# EAGLE library part XC2V8000* (library Xilinx_VirtexII)
Xilinx Virtex II FPGA
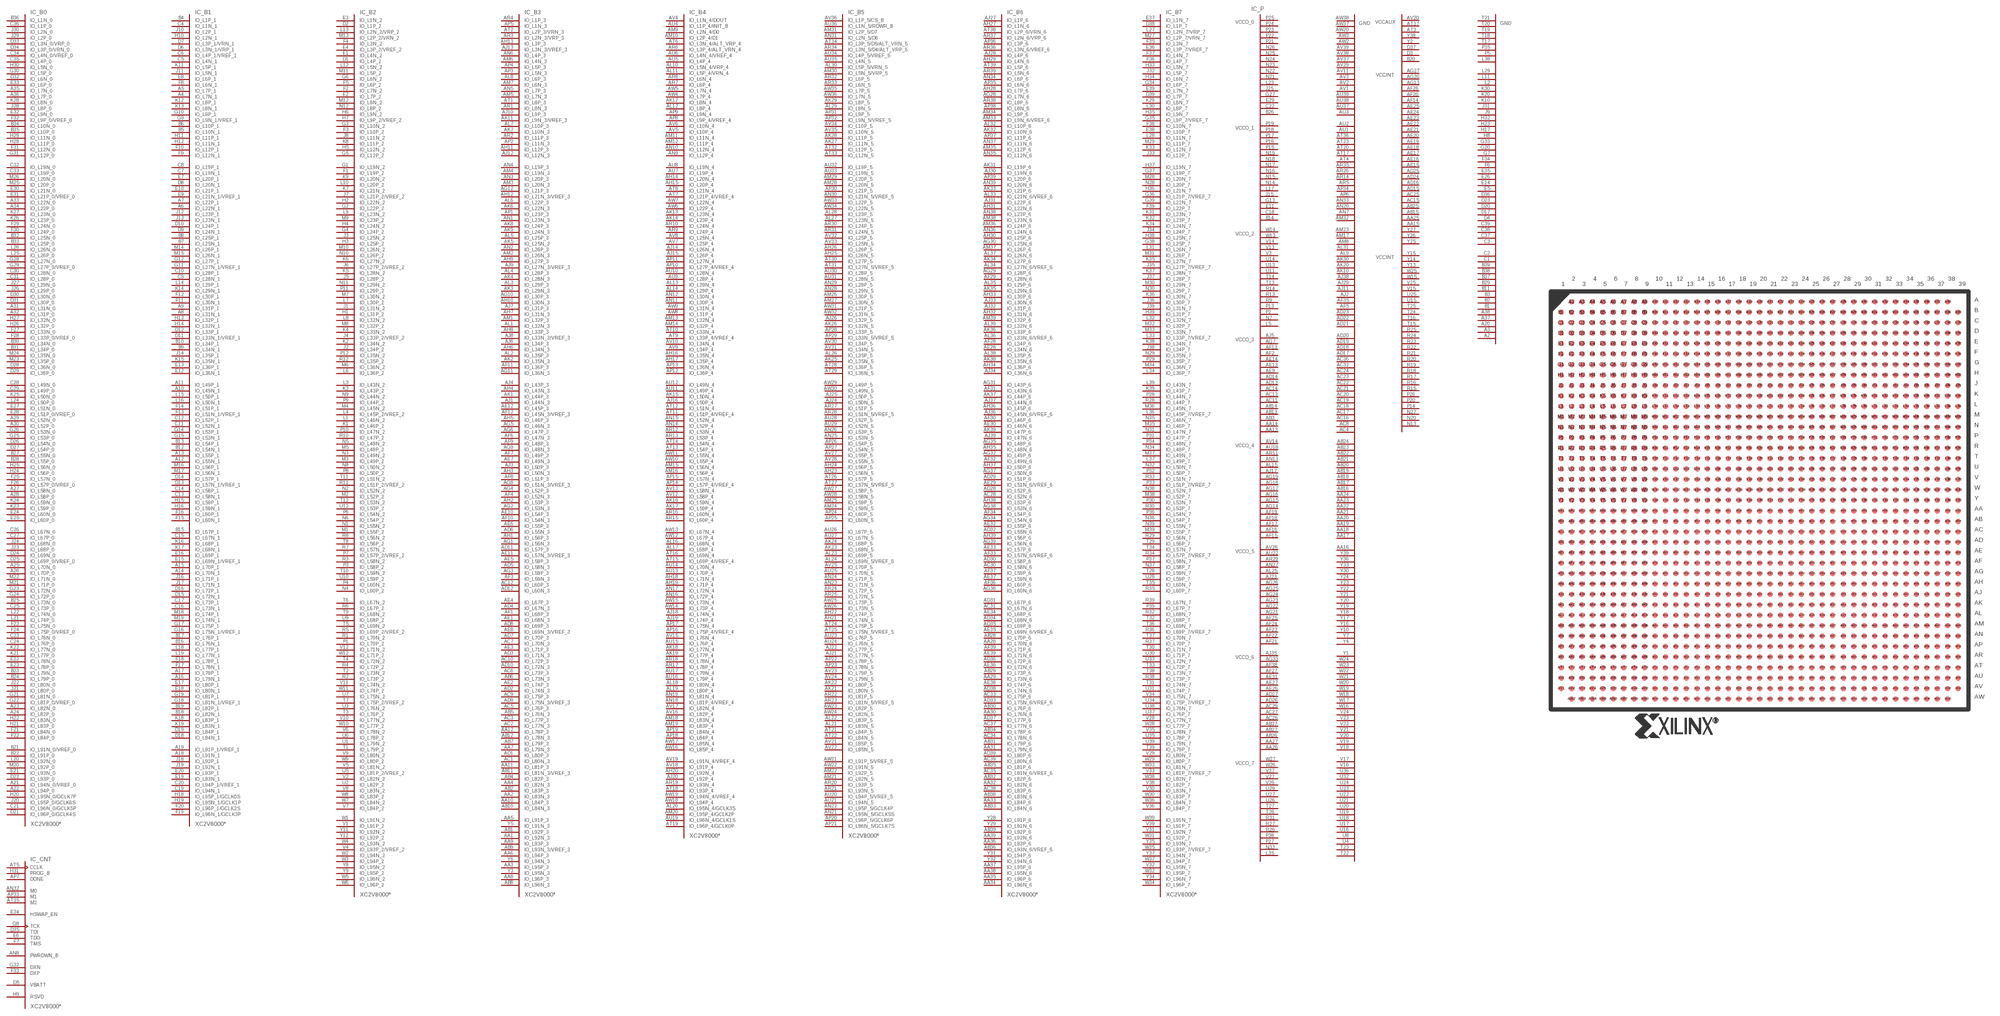
[diagram p0: symbol with the pads of FF1517; footprint FF1517]

Designator prefix IC; gates _B0=XC2V8000-FF1517_B0 _B1=XC2V8000-FF1517_B1 _B2=XC2V8000-FF1517_B2 _B3=XC2V8000-FF1517_B3 _B4=XC2V8000-FF1517_B4 _B5=XC2V8000-FF1517_B5 _B6=XC2V8000-FF1517_B6 _B7=XC2V8000-FF1517_B7 _CNT=XC2V8000-FF1517_CNT _P=XC2V8000-FF1517_PWR

## XC2V8000FF1517C, XC2V8000CFF1517C, XC2V8000IFF1517C  [FF1517]
A2  _P:GND  pwr
A3  _P:GND  pwr
A4  _B1:IO_L7N_1
A5  _B1:IO_L7P_1
A6  _B1:IO_L22N_1
A7  _B1:IO_L22P_1
A8  _B1:IO_L31N_1
A9  _B1:IO_L31P_1
A10  _B1:IO_L49N_1
A11  _B1:IO_L49P_1
A12  _B1:IO_L55N_1
A13  _B1:IO_L55P_1
A14  _B1:IO_L70N_1
A15  _B1:IO_L70P_1
A16  _B1:IO_L79N_1
A17  _B1:IO_L79P_1
A18  _B1:IO_L91N_1
A19  _B1:IO_L91P_1/VREF_1
A20  _P:GND  pwr
A21  _B0:IO_L94N_0/VREF_0
A22  _B0:IO_L94P_0
A23  _B0:IO_L82N_0
A24  _B0:IO_L82P_0
A25  _B0:IO_L70N_0
A26  _B0:IO_L70P_0
A27  _B0:IO_L58N_0
A28  _B0:IO_L58P_0
A29  _B0:IO_L52N_0
A30  _B0:IO_L52P_0
A31  _B0:IO_L31N_0
A32  _B0:IO_L31P_0
A33  _B0:IO_L22N_0
A34  _B0:IO_L22P_0
A35  _B0:IO_L7N_0
A36  _B0:IO_L7P_0
A37  _P:GND  pwr
A38  _P:GND  pwr
AA1  _B3:IO_L92N_3
AA2  _B3:IO_L83N_3
AA3  _B3:IO_L95P_3
AA4  _B3:IO_L82N_3
AA5  _B3:IO_L91P_3
AA6  _B3:IO_L94P_3
AA7  _B3:IO_L79N_3
AA8  _B3:IO_L96P_3
AA9  _B3:IO_L93P_3
AA10  _B3:IO_L84P_3
AA11  _B3:IO_L81P_3
AA12  _B3:IO_L78P_3
AA13  _P:VCCO_3  pwr
AA14  _P:VCCO_3  pwr
AA15  _P:VCCINT  pwr
AA16  _P:GND  pwr
AA17  _P:GND  pwr
AA18  _P:GND  pwr
AA19  _P:GND  pwr
AA20  _P:GND  pwr
AA21  _P:GND  pwr
AA22  _P:GND  pwr
AA23  _P:GND  pwr
AA24  _P:GND  pwr
AA25  _P:VCCINT  pwr
AA26  _P:VCCO_6  pwr
AA27  _P:VCCO_6  pwr
AA28  _B6:IO_L70N_6
AA29  _B6:IO_L73N_6
AA30  _B6:IO_L76N_6
AA31  _B6:IO_L79N_6
AA32  _B6:IO_L82N_6
AA33  _B6:IO_L84P_6
AA34  _B6:IO_L96N_6
AA35  _B6:IO_L96P_6
AA36  _B6:IO_L93P_6
AA37  _B6:IO_L95P_6
AA38  _B6:IO_L95N_6
AA39  _B6:IO_L92N_6
AB1  _B3:IO_L92P_3
AB2  _B3:IO_L83P_3
AB3  _P:VCCO_3  pwr
AB4  _B3:IO_L82P_3
AB5  _B3:IO_L76N_3
AB6  _B3:IO_L73N_3
AB7  _B3:IO_L79P_3
AB8  _B3:IO_L96N_3
AB9  _B3:IO_L93N_3/VREF_3
AB10  _B3:IO_L84N_3
AB11  _B3:IO_L81N_3/VREF_3
AB12  _B3:IO_L78N_3
AB13  _P:VCCO_3  pwr
AB14  _P:VCCO_3  pwr
AB15  _P:VCCINT  pwr
AB16  _P:GND  pwr
AB17  _P:GND  pwr
AB18  _P:GND  pwr
AB19  _P:GND  pwr
AB20  _P:GND  pwr
AB21  _P:GND  pwr
AB22  _P:GND  pwr
AB23  _P:GND  pwr
AB24  _P:GND  pwr
AB25  _P:VCCINT  pwr
AB26  _P:VCCO_6  pwr
AB27  _P:VCCO_6  pwr
AB28  _B6:IO_L70P_6
AB29  _B6:IO_L73P_6
AB30  _B6:IO_L76P_6
AB31  _B6:IO_L79P_6
AB32  _B6:IO_L82P_6
AB33  _B6:IO_L84N_6
AB34  _B6:IO_L78P_6
AB35  _B6:IO_L81P_6
AB36  _B6:IO_L93N_6/VREF_6
AB37  _P:VCCO_6  pwr
AB38  _B6:IO_L83N_6
AB39  _B6:IO_L92P_6
AC1  _B3:IO_L80N_3
AC2  _B3:IO_L77N_3
AC3  _B3:IO_L77P_3
AC4  _P:GND  pwr
AC5  _B3:IO_L76P_3
AC6  _B3:IO_L73P_3
AC7  _B3:IO_L70N_3
AC8  _P:GND  pwr
AC9  _B3:IO_L75P_3
AC10  _B3:IO_L72P_3
AC11  _P:VCCO_3  pwr
AC12  _B3:IO_L60P_3
AC13  _P:VCCO_3  pwr
AC14  _P:VCCO_3  pwr
AC15  _P:VCCINT  pwr
AC16  _P:GND  pwr
AC17  _P:GND  pwr
AC18  _P:GND  pwr
AC19  _P:GND  pwr
AC20  _P:GND  pwr
AC21  _P:GND  pwr
AC22  _P:GND  pwr
AC23  _P:GND  pwr
AC24  _P:GND  pwr
AC25  _P:VCCINT  pwr
AC26  _P:VCCO_6  pwr
AC27  _P:VCCO_6  pwr
AC28  _B6:IO_L52N_6
AC29  _P:VCCO_6  pwr
AC30  _B6:IO_L58N_6
AC31  _B6:IO_L67N_6
AC32  _P:GND  pwr
AC33  _B6:IO_L75P_6
AC34  _B6:IO_L78N_6
AC35  _B6:IO_L81N_6/VREF_6
AC36  _P:GND  pwr
AC37  _B6:IO_L77N_6
AC38  _B6:IO_L83P_6
AC39  _B6:IO_L80N_6
AD1  _B3:IO_L80P_3
AD2  _B3:IO_L74N_3
AD3  _B3:IO_L71N_3
AD4  _B3:IO_L67N_3
AD5  _B3:IO_L58N_3
AD6  _B3:IO_L55N_3
AD7  _B3:IO_L70P_3
AD8  _B3:IO_L69P_3
AD9  _B3:IO_L75N_3/VREF_3
AD10  _B3:IO_L72N_3
AD11  _B3:IO_L57P_3
AD12  _B3:IO_L60N_3
AD13  _P:VCCO_3  pwr
AD14  _P:VCCO_3  pwr
AD15  _P:VCCINT  pwr
AD16  _P:VCCINT  pwr
AD17  _P:GND  pwr
AD18  _P:GND  pwr
AD19  _P:GND  pwr
AD20  _P:GND  pwr
AD21  _P:GND  pwr
AD22  _P:GND  pwr
AD23  _P:GND  pwr
AD24  _P:VCCINT  pwr
AD25  _P:VCCINT  pwr
AD26  _P:VCCO_6  pwr
AD27  _P:VCCO_6  pwr
AD28  _B6:IO_L52P_6
AD29  _B6:IO_L51P_6
AD30  _B6:IO_L58P_6
AD31  _B6:IO_L67P_6
AD32  _B6:IO_L55N_6
AD33  _B6:IO_L75N_6/VREF_6
AD34  _B6:IO_L68N_6
AD35  _B6:IO_L69P_6
AD36  _B6:IO_L72P_6
AD37  _B6:IO_L77P_6
AD38  _B6:IO_L74N_6
AD39  _B6:IO_L80P_6
AE1  _B3:IO_L68N_3
AE2  _B3:IO_L74P_3
AE3  _B3:IO_L71P_3
AE4  _B3:IO_L67P_3
AE5  _B3:IO_L58P_3
AE6  _B3:IO_L55P_3
AE7  _B3:IO_L49N_3
AE8  _B3:IO_L69N_3/VREF_3
AE9  _P:VCCO_3  pwr
AE10  _B3:IO_L54P_3
AE11  _B3:IO_L57N_3/VREF_3
AE12  _B3:IO_L45P_3
AE13  _P:VCCO_3  pwr
AE14  _P:VCCO_3  pwr
AE15  _P:VCCINT  pwr
AE16  _P:VCCINT  pwr
AE17  _P:VCCINT  pwr
AE18  _P:VCCINT  pwr
AE19  _P:VCCINT  pwr
AE20  _P:VCCINT  pwr
AE21  _P:VCCINT  pwr
AE22  _P:VCCINT  pwr
AE23  _P:VCCINT  pwr
AE24  _P:VCCINT  pwr
AE25  _P:VCCINT  pwr
AE26  _P:VCCO_6  pwr
AE27  _P:VCCO_6  pwr
AE28  _B6:IO_L34N_6
AE29  _B6:IO_L51N_6/VREF_6
AE30  _B6:IO_L46N_6
AE31  _P:VCCO_6  pwr
AE32  _B6:IO_L55P_6
AE33  _B6:IO_L57P_6
AE34  _B6:IO_L68P_6
AE35  _B6:IO_L69N_6/VREF_6
AE36  _B6:IO_L72N_6
AE37  _B6:IO_L59N_6
AE38  _B6:IO_L74P_6
AE39  _B6:IO_L71N_6
AF1  _B3:IO_L68P_3
AF2  _P:VCCO_3  pwr
AF3  _B3:IO_L59N_3
AF4  _B3:IO_L52N_3
AF5  _P:GND  pwr
AF6  _B3:IO_L47N_3
AF7  _B3:IO_L49P_3
AF8  _B3:IO_L51P_3
AF9  _B3:IO_L48P_3
AF10  _B3:IO_L54N_3
AF11  _B3:IO_L36P_3
AF12  _B3:IO_L45N_3/VREF_3
AF13  _P:VCCO_3  pwr
AF14  _P:VCCINT  pwr
AF15  _P:VCCO_4  pwr
AF16  _P:VCCO_4  pwr
AF17  _P:VCCO_4  pwr
AF18  _P:VCCO_4  pwr
AF19  _P:VCCO_4  pwr
AF20  _P:VCCINT  pwr
AF21  _P:VCCO_5  pwr
AF22  _P:VCCO_5  pwr
AF23  _P:VCCO_5  pwr
AF24  _P:VCCO_5  pwr
AF25  _P:VCCO_5  pwr
AF26  _P:VCCINT  pwr
AF27  _P:VCCO_6  pwr
AF28  _B6:IO_L34P_6
AF29  _B6:IO_L28N_6
AF30  _B6:IO_L46P_6
AF31  _B6:IO_L43N_6
AF32  _B6:IO_L49N_6
AF33  _B6:IO_L57N_6/VREF_6
AF34  _B6:IO_L54P_6
AF35  _P:GND  pwr
AF36  _B6:IO_L60P_6
AF37  _B6:IO_L59P_6
AF38  _P:VCCO_6  pwr
AF39  _B6:IO_L71P_6
AG1  _B3:IO_L56N_3
AG2  _B3:IO_L53N_3
AG3  _B3:IO_L59P_3
AG4  _B3:IO_L52P_3
AG5  _B3:IO_L46N_3
AG6  _B3:IO_L47P_3
AG7  _P:VCCO_3  pwr
AG8  _B3:IO_L51N_3/VREF_3
AG9  _B3:IO_L48N_3
AG10  _B3:IO_L30P_3
AG11  _B3:IO_L36N_3
AG12  _B3:IO_L21P_3
AG13  _P:VCCINT  pwr
AG14  _P:VCCO_4  pwr
AG15  _P:VCCO_4  pwr
AG16  _P:VCCO_4  pwr
AG17  _P:VCCO_4  pwr
AG18  _P:VCCO_4  pwr
AG19  _P:VCCO_4  pwr
AG20  _P:VCCINT  pwr
AG21  _P:VCCO_5  pwr
AG22  _P:VCCO_5  pwr
AG23  _P:VCCO_5  pwr
AG24  _P:VCCO_5  pwr
AG25  _P:VCCO_5  pwr
AG26  _P:VCCO_5  pwr
AG27  _P:VCCINT  pwr
AG28  _B6:IO_L7N_6
AG29  _B6:IO_L28P_6
AG30  _B6:IO_L25N_6
AG31  _B6:IO_L43P_6
AG32  _B6:IO_L49P_6
AG33  _P:VCCO_6  pwr
AG34  _B6:IO_L54N_6
AG35  _B6:IO_L48P_6
AG36  _B6:IO_L60N_6
AG37  _B6:IO_L50N_6
AG38  _B6:IO_L53N_6
AG39  _B6:IO_L56N_6
AH1  _B3:IO_L56P_3
AH2  _B3:IO_L53P_3
AH3  _B3:IO_L50N_3
AH4  _B3:IO_L43N_3
AH5  _B3:IO_L46P_3
AH6  _B3:IO_L34N_3
AH7  _B3:IO_L31N_3
AH8  _B3:IO_L33P_3
AH9  _B3:IO_L27P_3
AH10  _B3:IO_L30N_3
AH11  _B3:IO_L12P_3
AH12  _B3:IO_L21N_3/VREF_3
AH13  _B3:IO_L3P_3
AH14  _B4:IO_L20N_4
AH15  _B4:IO_L20P_4
AH16  _B4:IO_L35N_4
AH17  _B4:IO_L35P_4
AH18  _B4:IO_L71N_4
AH19  _B4:IO_L71P_4
AH20  _B4:IO_L92N_4
AH21  _B5:IO_L74N_5
AH22  _B5:IO_L74P_5
AH23  _B5:IO_L56N_5
AH24  _B5:IO_L56P_5
AH25  _B5:IO_L26N_5
AH26  _B5:IO_L26P_5
AH27  _B6:IO_L1N_6
AH28  _B6:IO_L7P_6
AH29  _B6:IO_L4N_6
AH30  _B6:IO_L25P_6
AH31  _B6:IO_L22N_6
AH32  _B6:IO_L31N_6
AH33  _B6:IO_L30P_6
AH34  _B6:IO_L36P_6
AH35  _B6:IO_L48N_6
AH36  _B6:IO_L45P_6
AH37  _B6:IO_L50P_6
AH38  _B6:IO_L53P_6
AH39  _B6:IO_L56P_6
AJ1  _B3:IO_L44N_3
AJ2  _P:GND  pwr
AJ3  _B3:IO_L50P_3
AJ4  _B3:IO_L43P_3
AJ5  _P:VCCO_3  pwr
AJ6  _B3:IO_L34P_3
AJ7  _B3:IO_L31P_3
AJ8  _B3:IO_L33N_3/VREF_3
AJ9  _B3:IO_L27N_3/VREF_3
AJ10  _B3:IO_L9P_3
AJ11  _P:GND  pwr
AJ12  _B3:IO_L12N_3
AJ13  _B3:IO_L3N_3/VREF_3
AJ14  _B4:IO_L26N_4
AJ15  _B4:IO_L26P_4
AJ16  _B4:IO_L50P_4
AJ17  _P:VCCO_4  pwr
AJ18  _B4:IO_L74N_4
AJ19  _B4:IO_L74P_4
AJ20  _B4:IO_L92P_4
AJ21  _B5:IO_L77N_5
AJ22  _B5:IO_L77P_5
AJ23  _P:VCCO_5  pwr
AJ24  _B5:IO_L50N_5
AJ25  _B5:IO_L50P_5
AJ26  _B5:IO_L32P_5
AJ27  _B6:IO_L1P_6
AJ28  _B6:IO_L4P_6
AJ29  _P:GND  pwr
AJ30  _B6:IO_L19N_6
AJ31  _B6:IO_L22P_6
AJ32  _B6:IO_L31P_6
AJ33  _B6:IO_L30N_6
AJ34  _B6:IO_L36N_6
AJ35  _P:VCCO_6  pwr
AJ36  _B6:IO_L45N_6/VREF_6
AJ37  _B6:IO_L44N_6
AJ38  _P:GND  pwr
AJ39  _B6:IO_L47N_6
AK1  _B3:IO_L44P_3
AK2  _B3:IO_L35N_3
AK3  _B3:IO_L29N_3
AK4  _B3:IO_L28N_3
AK5  _B3:IO_L25N_3
AK6  _B3:IO_L22N_3
AK7  _B3:IO_L10N_3
AK8  _B3:IO_L24P_3
AK9  _B3:IO_L24N_3
AK10  _P:GND  pwr
AK11  _B3:IO_L9N_3/VREF_3
AK12  _B4:IO_L8N_4
AK13  _B4:IO_L23N_4
AK14  _B4:IO_L23P_4
AK15  _B4:IO_L50N_4
AK16  _B4:IO_L59N_4
AK17  _B4:IO_L59P_4
AK18  _B4:IO_L77N_4
AK19  _B4:IO_L77P_4
AK20  _P:GND  pwr
AK21  _B5:IO_L80N_5
AK22  _B5:IO_L80P_5
AK23  _B5:IO_L68N_5
AK24  _B5:IO_L68P_5
AK25  _B5:IO_L35N_5
AK26  _B5:IO_L32N_5
AK27  _B5:IO_L11N_5
AK28  _B5:IO_L11P_5
AK29  _B5:IO_L8P_5
AK30  _P:GND  pwr
AK31  _B6:IO_L19P_6
AK32  _B6:IO_L10N_6
AK33  _B6:IO_L21P_6
AK34  _B6:IO_L27P_6
AK35  _B6:IO_L29N_6
AK36  _B6:IO_L33P_6
AK37  _B6:IO_L44P_6
AK38  _B6:IO_L35N_6
AK39  _B6:IO_L47P_6
AL1  _B3:IO_L32N_3
AL2  _B3:IO_L35P_3
AL3  _B3:IO_L29P_3
AL4  _B3:IO_L28P_3
AL5  _B3:IO_L25P_3
AL6  _B3:IO_L22P_3
AL7  _B3:IO_L10P_3
AL8  _B3:IO_L6P_3
AL9  _P:GND  pwr
AL10  _B4:IO_L5N_4/VRP_4
AL11  _B4:IO_L5P_4/VRN_4
AL12  _B4:IO_L8P_4
AL13  _B4:IO_L29N_4
AL14  _B4:IO_L29P_4
AL15  _P:VCCO_4  pwr
AL16  _B4:IO_L68N_4
AL17  _B4:IO_L68P_4
AL18  _B4:IO_L80N_4
AL19  _B4:IO_L80P_4
AL20  _B4:IO_L95N_4/GCLK3S
AL21  _B5:IO_L83N_5
AL22  _B5:IO_L83P_5
AL23  _B5:IO_L69P_5
AL24  _B5:IO_L69N_5/VREF_5
AL25  _P:VCCO_5  pwr
AL26  _B5:IO_L35P_5
AL27  _B5:IO_L23N_5
AL28  _B5:IO_L23P_5
AL29  _B5:IO_L8N_5
AL30  _B5:IO_L5P_5/VRN_5
AL31  _P:GND  pwr
AL32  _B6:IO_L10P_6
AL33  _B6:IO_L21N_6/VREF_6
AL34  _B6:IO_L27N_6/VREF_6
AL35  _B6:IO_L29P_6
AL36  _B6:IO_L33N_6/VREF_6
AL37  _B6:IO_L26N_6
AL38  _B6:IO_L35P_6
AL39  _B6:IO_L32N_6
AM1  _B3:IO_L32P_3
AM2  _B3:IO_L26N_3
AM3  _B3:IO_L20N_3
AM4  _B3:IO_L19N_3
AM5  _B3:IO_L7N_3
AM6  _B3:IO_L4N_3
AM7  _B3:IO_L6N_3
AM8  _P:GND  pwr
AM9  _B4:IO_L2N_4/D0
AM10  _B4:IO_L2P_4/D1
AM11  _B4:IO_L11N_4
AM12  _B4:IO_L11P_4
AM13  _B4:IO_L32N_4
AM14  _B4:IO_L32P_4
AM15  _B4:IO_L56N_4
AM16  _B4:IO_L56P_4
AM17  _P:GND  pwr
AM18  _B4:IO_L83N_4
AM19  _B4:IO_L83P_4
AM20  _B4:IO_L95P_4/GCLK2P
AM21  _B5:IO_L92N_5
AM22  _B5:IO_L92P_5
AM23  _P:GND  pwr
AM24  _B5:IO_L59N_5
AM25  _B5:IO_L59P_5
AM26  _B5:IO_L30P_5
AM27  _B5:IO_L30N_5
AM28  _B5:IO_L20N_5
AM29  _B5:IO_L20P_5
AM30  _B5:IO_L5N_5/VRP_5
AM31  _B5:IO_L2P_5/D7
AM32  _P:GND  pwr
AM33  _B6:IO_L9N_6/VREF_6
AM34  _B6:IO_L9P_6
AM35  _B6:IO_L12P_6
AM36  _B6:IO_L24P_6
AM37  _B6:IO_L26P_6
AM38  _B6:IO_L23N_6
AM39  _B6:IO_L32P_6
AN1  _B3:IO_L23N_3
AN2  _B3:IO_L26P_3
AN3  _B3:IO_L20P_3
AN4  _B3:IO_L19P_3
AN5  _B3:IO_L7P_3
AN6  _B3:IO_L4P_3
AN7  _P:GND  pwr
AN8  _CNT:PWRDWN_B  in
AN9  _B4:IO_L12P_4
AN10  _B4:IO_L12N_4
AN11  _B4:IO_L30P_4
AN12  _B4:IO_L30N_4
AN13  _P:VCCO_4  pwr
AN14  _B4:IO_L52P_4
AN15  _B4:IO_L52N_4
AN16  _B4:IO_L72P_4
AN17  _B4:IO_L72N_4
AN18  _B4:IO_L81P_4/VREF_4
AN19  _B4:IO_L81N_4
AN20  _P:GND  pwr
AN21  _B5:IO_L95N_5/GCLK5S
AN22  _B5:IO_L95P_5/GCLK4P
AN23  _B5:IO_L71N_5
AN24  _B5:IO_L71P_5
AN25  _B5:IO_L53N_5
AN26  _B5:IO_L53P_5
AN27  _P:VCCO_5  pwr
AN28  _B5:IO_L29N_5
AN29  _B5:IO_L29P_5
AN30  _B5:IO_L21N_5/VREF_5
AN31  _B5:IO_L2N_5/D6
AN32  _CNT:M0  in
AN33  _P:GND  pwr
AN34  _B6:IO_L6P_6
AN35  _B6:IO_L12N_6
AN36  _B6:IO_L24N_6
AN37  _B6:IO_L11N_6
AN38  _B6:IO_L23P_6
AN39  _B6:IO_L20N_6
AP1  _B3:IO_L23P_3
AP2  _B3:IO_L11N_3
AP3  _B3:IO_L5N_3
AP4  _B3:IO_L5P_3
AP5  _B3:IO_L1N_3
AP6  _P:GND  pwr
AP7  _CNT:DONE
AP8  _B4:IO_L9P_4/VREF_4
AP9  _B4:IO_L9N_4
AP10  _B4:IO_L27P_4/VREF_4
AP11  _B4:IO_L27N_4
AP12  _B4:IO_L36P_4
AP13  _B4:IO_L36N_4
AP14  _B4:IO_L57P_4/VREF_4
AP15  _B4:IO_L57N_4
AP16  _B4:IO_L75P_4/VREF_4
AP17  _B4:IO_L75N_4
AP18  _B4:IO_L84P_4
AP19  _B4:IO_L84N_4
AP20  _B5:IO_L96P_5/GCLK6P
AP21  _B5:IO_L96N_5/GCLK7S
AP22  _B5:IO_L78P_5
AP23  _B5:IO_L78N_5
AP24  _B5:IO_L60P_5
AP25  _B5:IO_L60N_5
AP26  _B5:IO_L54P_5
AP27  _B5:IO_L54N_5
AP28  _B5:IO_L33P_5
AP29  _B5:IO_L33N_5/VREF_5
AP30  _B5:IO_L21P_5
AP31  _B5:IO_L9P_5
AP32  _B5:IO_L9N_5/VREF_5
AP33  _CNT:M1  in
AP34  _P:GND  pwr
AP35  _B6:IO_L6N_6
AP36  _B6:IO_L3P_6
AP37  _B6:IO_L11P_6
AP38  _B6:IO_L8N_6
AP39  _B6:IO_L20P_6
AR1  _B3:IO_L8N_3
AR2  _B3:IO_L11P_3
AR3  _B3:IO_L2N_3/VRP_3
AR4  _B3:IO_L1P_3
AR5  _P:GND  pwr
AR6  _B4:IO_L3P_4/ALT_VRN_4
AR7  _B4:IO_L6P_4
AR8  _B4:IO_L6N_4
AR9  _B4:IO_L24P_4
AR10  _B4:IO_L24N_4
AR11  _P:VCCO_4  pwr
AR12  _B4:IO_L53N_4
AR13  _B4:IO_L53P_4
AR14  _P:GND  pwr
AR15  _B4:IO_L60P_4
AR16  _B4:IO_L60N_4
AR17  _B4:IO_L78P_4
AR18  _B4:IO_L78N_4
AR19  _B4:IO_L93N_4
AR20  _B5:IO_L93P_5
AR21  _B5:IO_L93N_5
AR22  _B5:IO_L81P_5
AR23  _B5:IO_L81N_5/VREF_5
AR24  _B5:IO_L72P_5
AR25  _B5:IO_L72N_5
AR26  _P:GND  pwr
AR27  _B5:IO_L51P_5
AR28  _B5:IO_L51N_5/VREF_5
AR29  _P:VCCO_5  pwr
AR30  _B5:IO_L24P_5
AR31  _B5:IO_L24N_5
AR32  _B5:IO_L6P_5
AR33  _B5:IO_L6N_5
AR34  _B5:IO_L3N_5/D4/ALT_VRP_5
AR35  _P:GND  pwr
AR36  _B6:IO_L3N_6/VREF_6
AR37  _B6:IO_L2N_6/VRP_6
AR38  _B6:IO_L8P_6
AR39  _B6:IO_L5N_6
AT1  _B3:IO_L8P_3
AT2  _B3:IO_L2P_3/VRN_3
AT3  _P:VCCAUX  sup
AT4  _P:GND  pwr
AT5  _CNT:CCLK  in
AT6  _B4:IO_L3N_4/ALT_VRP_4
AT7  _B4:IO_L21P_4/VREF_4
AT8  _B4:IO_L21N_4
AT9  _B4:IO_L33P_4/VREF_4
AT10  _B4:IO_L33N_4
AT11  _B4:IO_L51P_4/VREF_4
AT12  _B4:IO_L51N_4
AT13  _B4:IO_L54P_4
AT14  _B4:IO_L54N_4
AT15  _B4:IO_L69P_4/VREF_4
AT16  _B4:IO_L69N_4
AT17  _P:GND  pwr
AT18  _B4:IO_L93P_4
AT19  _B4:IO_L96P_4/GCLK0P
AT20  _P:GND  pwr
AT21  _B5:IO_L84P_5
AT22  _B5:IO_L84N_5
AT23  _P:GND  pwr
AT24  _B5:IO_L75P_5
AT25  _B5:IO_L75N_5/VREF_5
AT26  _B5:IO_L57P_5
AT27  _B5:IO_L57N_5/VREF_5
AT28  _B5:IO_L36P_5
AT29  _B5:IO_L36N_5
AT30  _B5:IO_L27P_5
AT31  _B5:IO_L27N_5/VREF_5
AT32  _B5:IO_L12P_5
AT33  _B5:IO_L12N_5
AT34  _B5:IO_L3P_5/D5/ALT_VRN_5
AT35  _CNT:M2  in
AT36  _P:GND  pwr
AT37  _P:VCCAUX  sup
AT38  _B6:IO_L2P_6/VRN_6
AT39  _B6:IO_L5P_6
AU1  _P:GND  pwr
AU2  _P:GND  pwr
AU3  _P:GND  pwr
AU4  _B4:IO_L1P_4/INIT_B
AU5  _B4:IO_L4P_4
AU6  _B4:IO_L4N_4/VREF_4
AU7  _B4:IO_L19P_4
AU8  _B4:IO_L19N_4
AU9  _B4:IO_L28P_4
AU10  _B4:IO_L28N_4
AU11  _B4:IO_L49P_4
AU12  _B4:IO_L49N_4
AU13  _B4:IO_L70P_4
AU14  _B4:IO_L70N_4
AU15  _B4:IO_L76P_4
AU16  _B4:IO_L79P_4
AU17  _B4:IO_L79N_4
AU18  _P:VCCO_4  pwr
AU19  _B4:IO_L96N_4/GCLK1S
AU20  _B5:IO_L94P_5/VREF_5
AU21  _B5:IO_L94N_5
AU22  _P:VCCO_5  pwr
AU23  _B5:IO_L76P_5
AU24  _B5:IO_L76N_5
AU25  _B5:IO_L70N_5
AU26  _B5:IO_L67P_5
AU27  _B5:IO_L67N_5
AU28  _B5:IO_L52P_5
AU29  _B5:IO_L52N_5
AU30  _B5:IO_L28P_5
AU31  _B5:IO_L28N_5
AU32  _B5:IO_L19P_5
AU33  _B5:IO_L19N_5
AU34  _B5:IO_L4P_5/VREF_5
AU35  _B5:IO_L4N_5
AU36  _B5:IO_L1N_5/RDWR_B
AU37  _P:GND  pwr
AU38  _P:GND  pwr
AU39  _P:GND  pwr
AV1  _P:GND  pwr
AV2  _P:GND  pwr
AV3  _P:GND  pwr
AV4  _B4:IO_L1N_4/DOUT
AV5  _B4:IO_L10P_4
AV6  _B4:IO_L10N_4
AV7  _B4:IO_L25P_4
AV8  _B4:IO_L25N_4
AV9  _B4:IO_L34P_4
AV10  _B4:IO_L34N_4
AV11  _P:GND  pwr
AV12  _B4:IO_L58P_4
AV13  _B4:IO_L58N_4
AV14  _P:VCCO_4  pwr
AV15  _B4:IO_L76N_4
AV16  _B4:IO_L82P_4
AV17  _B4:IO_L82N_4
AV18  _B4:IO_L91P_4
AV19  _B4:IO_L91N_4/VREF_4
AV20  _P:VCCAUX  sup
AV21  _B5:IO_L85P_5
AV22  _B5:IO_L85N_5
AV23  _B5:IO_L79P_5
AV24  _B5:IO_L79N_5
AV25  _B5:IO_L70P_5
AV26  _P:VCCO_5  pwr
AV27  _B5:IO_L55P_5
AV28  _B5:IO_L55N_5
AV29  _P:GND  pwr
AV30  _B5:IO_L34P_5
AV31  _B5:IO_L34N_5
AV32  _B5:IO_L25P_5
AV33  _B5:IO_L25N_5
AV34  _B5:IO_L10P_5
AV35  _B5:IO_L10N_5
AV36  _B5:IO_L1P_5/CS_B
AV37  _P:GND  pwr
AV38  _P:GND  pwr
AV39  _P:GND  pwr
AW2  _P:GND  pwr
AW3  _P:GND  pwr
AW4  _B4:IO_L7P_4
AW5  _B4:IO_L7N_4
AW6  _B4:IO_L22P_4
AW7  _B4:IO_L22N_4
AW8  _B4:IO_L31P_4
AW9  _B4:IO_L31N_4
AW10  _B4:IO_L55P_4
AW11  _B4:IO_L55N_4
AW12  _B4:IO_L67P_4
AW13  _B4:IO_L67N_4
AW14  _B4:IO_L73P_4
AW15  _B4:IO_L73N_4
AW16  _B4:IO_L85P_4
AW17  _B4:IO_L85N_4
AW18  _B4:IO_L94P_4
AW19  _B4:IO_L94N_4/VREF_4
AW20  _P:GND  pwr
AW21  _B5:IO_L91P_5/VREF_5
AW22  _B5:IO_L91N_5
AW23  _B5:IO_L82P_5
AW24  _B5:IO_L82N_5
AW25  _B5:IO_L73P_5
AW26  _B5:IO_L73N_5
AW27  _B5:IO_L58P_5
AW28  _B5:IO_L58N_5
AW29  _B5:IO_L49P_5
AW30  _B5:IO_L49N_5
AW31  _B5:IO_L31P_5
AW32  _B5:IO_L31N_5
AW33  _B5:IO_L22P_5
AW34  _B5:IO_L22N_5
AW35  _B5:IO_L7P_5
AW36  _B5:IO_L7N_5
AW37  _P:GND  pwr
AW38  _P:GND  pwr
B1  _P:GND  pwr
B2  _P:GND  pwr
B3  _P:GND  pwr
B4  _B1:IO_L1P_1
B5  _B1:IO_L10N_1
B6  _B1:IO_L10P_1
B7  _B1:IO_L25N_1
B8  _B1:IO_L25P_1
B9  _B1:IO_L34N_1
B10  _B1:IO_L34P_1
B11  _P:GND  pwr
B12  _B1:IO_L54N_1
B13  _B1:IO_L54P_1
B14  _P:VCCO_1  pwr
B15  _B1:IO_L67P_1
B16  _B1:IO_L76N_1
B17  _B1:IO_L76P_1
B18  _B1:IO_L82N_1
B19  _B1:IO_L82P_1
B20  _P:VCCAUX  sup
B21  _B0:IO_L91N_0/VREF_0
B22  _B0:IO_L91P_0
B23  _B0:IO_L79N_0
B24  _B0:IO_L79P_0
B25  _B0:IO_L73N_0
B26  _P:VCCO_0  pwr
B27  _B0:IO_L55N_0
B28  _B0:IO_L55P_0
B29  _P:GND  pwr
B30  _B0:IO_L34N_0
B31  _B0:IO_L34P_0
B32  _B0:IO_L25N_0
B33  _B0:IO_L25P_0
B34  _B0:IO_L10N_0
B35  _B0:IO_L10P_0
B36  _B0:IO_L1N_0
B37  _P:GND  pwr
B38  _P:GND  pwr
B39  _P:GND  pwr
C1  _P:GND  pwr
C2  _P:GND  pwr
C3  _P:GND  pwr
C4  _B1:IO_L1N_1
C5  _B1:IO_L4N_1
C6  _B1:IO_L4P_1/VREF_1
C7  _B1:IO_L19N_1
C8  _B1:IO_L19P_1
C9  _B1:IO_L28N_1
C10  _B1:IO_L28P_1
C11  _B1:IO_L52N_1
C12  _B1:IO_L52P_1
C13  _B1:IO_L58N_1
C14  _B1:IO_L58P_1
C15  _B1:IO_L67N_1
C16  _B1:IO_L73N_1
C17  _B1:IO_L73P_1
C18  _P:VCCO_1  pwr
C19  _B1:IO_L94N_1
C20  _B1:IO_L94P_1/VREF_1
C21  _B0:IO_L96N_0/GCLK5P
C22  _P:VCCO_0  pwr
C23  _B0:IO_L76N_0
C24  _B0:IO_L76P_0
C25  _B0:IO_L73P_0
C26  _B0:IO_L67N_0
C27  _B0:IO_L67P_0
C28  _B0:IO_L49N_0
C29  _B0:IO_L49P_0
C30  _B0:IO_L28N_0
C31  _B0:IO_L28P_0
C32  _B0:IO_L19N_0
C33  _B0:IO_L19P_0
C34  _B0:IO_L4N_0/VREF_0
C35  _B0:IO_L4P_0
C36  _B0:IO_L1P_0
C37  _P:GND  pwr
C38  _P:GND  pwr
C39  _P:GND  pwr
D1  _B2:IO_L4P_2
D2  _B2:IO_L1P_2
D3  _P:VCCAUX  sup
D4  _P:GND  pwr
D5  _CNT:VBATT  pwr
D6  _B1:IO_L3N_1/VRP_1
D7  _B1:IO_L3P_1/VRN_1
D8  _B1:IO_L20N_1
D9  _B1:IO_L24N_1
D10  _B1:IO_L24P_1
D11  _B1:IO_L33N_1/VREF_1
D12  _B1:IO_L33P_1
D13  _B1:IO_L57N_1/VREF_1
D14  _B1:IO_L57P_1
D15  _B1:IO_L72N_1
D16  _B1:IO_L72P_1
D17  _P:GND  pwr
D18  _B1:IO_L84N_1
D19  _B1:IO_L84P_1
D20  _P:GND  pwr
D21  _B0:IO_L96P_0/GCLK4S
D22  _B0:IO_L93P_0
D23  _P:GND  pwr
D24  _B0:IO_L69N_0
D25  _B0:IO_L69P_0/VREF_0
D26  _B0:IO_L54N_0
D27  _B0:IO_L54P_0
D28  _B0:IO_L36N_0
D29  _B0:IO_L36P_0
D30  _B0:IO_L30N_0
D31  _B0:IO_L30P_0
D32  _B0:IO_L6N_0
D33  _B0:IO_L3N_0/VRP_0
D34  _B0:IO_L3P_0/VRN_0
D35  _CNT:TDI  in
D36  _P:GND  pwr
D37  _P:VCCAUX  sup
D38  _B7:IO_L1P_7
D39  _B7:IO_L7P_7
E1  _B2:IO_L4N_2
E2  _B2:IO_L7P_2
E3  _B2:IO_L1N_2
E4  _B2:IO_L3P_2/VREF_2
E5  _P:GND  pwr
E6  _CNT:TDO  out
E7  _B1:IO_L20P_1
E8  _B1:IO_L6P_1
E9  _B1:IO_L21N_1/VREF_1
E10  _B1:IO_L21P_1
E11  _P:VCCO_1  pwr
E12  _B1:IO_L36N_1
E13  _B1:IO_L36P_1
E14  _P:GND  pwr
E15  _B1:IO_L69N_1/VREF_1
E16  _B1:IO_L69P_1
E17  _B1:IO_L80P_1
E18  _B1:IO_L80N_1
E19  _B1:IO_L93N_1
E20  _B1:IO_L93P_1
E21  _B0:IO_L93N_0
E22  _B0:IO_L78N_0
E23  _B0:IO_L78P_0
E24  _B0:IO_L60N_0
E25  _B0:IO_L60P_0
E26  _P:GND  pwr
E27  _B0:IO_L51N_0
E28  _B0:IO_L51P_0/VREF_0
E29  _P:VCCO_0  pwr
E30  _B0:IO_L21N_0
E31  _B0:IO_L21P_0/VREF_0
E32  _B0:IO_L9N_0
E33  _B0:IO_L6P_0
E34  _CNT:HSWAP_EN  in
E35  _P:GND  pwr
E36  _B7:IO_L3P_7/VREF_7
E37  _B7:IO_L1N_7
E38  _B7:IO_L10P_7
E39  _B7:IO_L7N_7
F1  _B2:IO_L19P_2
F2  _B2:IO_L7N_2
F3  _B2:IO_L10P_2
F4  _B2:IO_L3N_2
F5  _B2:IO_L6P_2
F6  _P:GND  pwr
F7  _CNT:TMS  in
F8  _B1:IO_L6N_1
F9  _B1:IO_L12N_1
F10  _B1:IO_L12P_1
F11  _B1:IO_L30N_1
F12  _B1:IO_L30P_1
F13  _B1:IO_L51N_1/VREF_1
F14  _B1:IO_L51P_1
F15  _B1:IO_L60N_1
F16  _B1:IO_L60P_1
F17  _B1:IO_L78N_1
F18  _B1:IO_L78P_1
F19  _B1:IO_L96N_1/GCLK3P
F20  _B1:IO_L96P_1/GCLK2S
F21  _B0:IO_L84N_0
F22  _B0:IO_L84P_0
F23  _B0:IO_L75N_0
F24  _B0:IO_L75P_0/VREF_0
F25  _B0:IO_L57N_0
F26  _B0:IO_L57P_0/VREF_0
F27  _B0:IO_L33N_0
F28  _B0:IO_L33P_0/VREF_0
F29  _B0:IO_L24N_0
F30  _B0:IO_L24P_0
F31  _B0:IO_L12N_0
F32  _B0:IO_L9P_0/VREF_0
F33  _CNT:DXP  nc
F34  _P:GND  pwr
F35  _B7:IO_L3N_7
F36  _B7:IO_L4P_7
F37  _B7:IO_L4N_7
F38  _B7:IO_L10N_7
F39  _B7:IO_L22P_7
G1  _B2:IO_L19N_2
G2  _B2:IO_L22P_2
G3  _B2:IO_L10N_2
G4  _B2:IO_L24P_2
G5  _B2:IO_L12P_2
G6  _B2:IO_L6N_2
G7  _P:GND  pwr
G8  _CNT:TCK  in
G9  _B1:IO_L9N_1/VREF_1
G10  _B1:IO_L9P_1
G11  _B1:IO_L27N_1/VREF_1
G12  _B1:IO_L27P_1
G13  _P:VCCO_1  pwr
G14  _B1:IO_L53P_1
G15  _B1:IO_L53N_1
G16  _B1:IO_L75N_1/VREF_1
G17  _B1:IO_L75P_1
G18  _B1:IO_L81N_1/VREF_1
G19  _B1:IO_L81P_1
G20  _P:GND  pwr
G21  _B0:IO_L81N_0
G22  _B0:IO_L81P_0/VREF_0
G23  _B0:IO_L72N_0
G24  _B0:IO_L72P_0
G25  _B0:IO_L53P_0
G26  _B0:IO_L53N_0
G27  _P:VCCO_0  pwr
G28  _B0:IO_L27N_0
G29  _B0:IO_L27P_0/VREF_0
G30  _B0:IO_L5P_0
G31  _B0:IO_L12P_0
G32  _CNT:DXN  nc
G33  _P:GND  pwr
G34  _B7:IO_L6P_7
G35  _B7:IO_L9P_7/VREF_7
G36  _B7:IO_L21P_7/VREF_7
G37  _B7:IO_L19P_7
G38  _B7:IO_L25P_7
G39  _B7:IO_L22N_7
H1  _B2:IO_L31P_2
H2  _B2:IO_L22N_2
H3  _B2:IO_L25P_2
H4  _B2:IO_L24N_2
H5  _B2:IO_L12N_2
H6  _B2:IO_L9N_2
H7  _B2:IO_L9P_2/VREF_2
H8  _P:GND  pwr
H9  _CNT:RSVD  nc
H10  _B1:IO_L2N_1
H11  _B1:IO_L11P_1
H12  _B1:IO_L11N_1
H13  _B1:IO_L32P_1
H14  _B1:IO_L32N_1
H15  _B1:IO_L59P_1
H16  _B1:IO_L59N_1
H17  _P:GND  pwr
H18  _B1:IO_L95P_1/GCLK0S
H19  _B1:IO_L95N_1/GCLK1P
H20  _B0:IO_L95N_0/GCLK7P
H21  _B0:IO_L83P_0
H22  _B0:IO_L83N_0
H23  _P:GND  pwr
H24  _B0:IO_L56P_0
H25  _B0:IO_L56N_0
H26  _B0:IO_L32P_0
H27  _B0:IO_L32N_0
H28  _B0:IO_L11P_0
H29  _B0:IO_L11N_0
H30  _B0:IO_L5N_0
H31  _CNT:PROG_B  in
H32  _P:GND  pwr
H33  _B7:IO_L5N_7
H34  _B7:IO_L6N_7
H35  _B7:IO_L9N_7
H36  _B7:IO_L21N_7
H37  _B7:IO_L19N_7
H38  _B7:IO_L25N_7
H39  _B7:IO_L31P_7
J1  _B2:IO_L31N_2
J2  _B2:IO_L34P_2
J3  _B2:IO_L25N_2
J4  _B2:IO_L33P_2/VREF_2
J5  _B2:IO_L28P_2
J6  _B2:IO_L27P_2/VREF_2
J7  _B2:IO_L21P_2/VREF_2
J8  _B2:IO_L11N_2
J9  _P:GND  pwr
J10  _B1:IO_L2P_1
J11  _B1:IO_L5N_1
J12  _B1:IO_L23P_1
J13  _B1:IO_L23N_1
J14  _B1:IO_L35P_1
J15  _P:VCCO_1  pwr
J16  _B1:IO_L71P_1
J17  _B1:IO_L71N_1
J18  _B1:IO_L92P_1
J19  _B1:IO_L92N_1
J20  _B0:IO_L95P_0/GCLK6S
J21  _B0:IO_L80P_0
J22  _B0:IO_L80N_0
J23  _B0:IO_L68P_0
J24  _B0:IO_L68N_0
J25  _P:VCCO_0  pwr
J26  _B0:IO_L29P_0
J27  _B0:IO_L29N_0
J28  _B0:IO_L8P_0
J29  _B0:IO_L2P_0
J30  _B0:IO_L2N_0
J31  _P:GND  pwr
J32  _B7:IO_L5P_7
J33  _B7:IO_L12P_7
J34  _B7:IO_L24P_7
J35  _B7:IO_L27P_7/VREF_7
J36  _B7:IO_L30P_7
J37  _B7:IO_L28P_7
J38  _B7:IO_L34P_7
J39  _B7:IO_L31N_7
K1  _B2:IO_L46P_2
K2  _B2:IO_L34N_2
K3  _B2:IO_L43P_2
K4  _B2:IO_L33N_2
K5  _B2:IO_L28N_2
K6  _B2:IO_L27N_2
K7  _B2:IO_L21N_2
K8  _B2:IO_L11P_2
K9  _B2:IO_L20N_2
K10  _P:GND  pwr
K11  _B1:IO_L5P_1
K12  _B1:IO_L8P_1
K13  _B1:IO_L8N_1
K14  _B1:IO_L29N_1
K15  _B1:IO_L35N_1
K16  _B1:IO_L68P_1
K17  _B1:IO_L68N_1
K18  _B1:IO_L83P_1
K19  _B1:IO_L83N_1
K20  _P:GND  pwr
K21  _B0:IO_L77P_0
K22  _B0:IO_L77N_0
K23  _B0:IO_L59P_0
K24  _B0:IO_L59N_0
K25  _B0:IO_L50N_0
K26  _B0:IO_L23P_0
K27  _B0:IO_L23N_0
K28  _B0:IO_L8N_0
K29  _B7:IO_L8N_7
K30  _P:GND  pwr
K31  _B7:IO_L23N_7
K32  _B7:IO_L23P_7
K33  _B7:IO_L12N_7
K34  _B7:IO_L24N_7
K35  _B7:IO_L27N_7
K36  _B7:IO_L30N_7
K37  _B7:IO_L28N_7
K38  _B7:IO_L34N_7
K39  _B7:IO_L43P_7
L1  _B2:IO_L46N_2
L2  _P:GND  pwr
L3  _B2:IO_L43N_2
L4  _B2:IO_L45P_2/VREF_2
L5  _P:VCCO_2  pwr
L6  _B2:IO_L36P_2
L7  _B2:IO_L30P_2
L8  _B2:IO_L32N_2
L9  _B2:IO_L23N_2
L10  _B2:IO_L20P_2
L11  _P:GND  pwr
L12  _B2:IO_L5N_2
L13  _B2:IO_L2N_2/VRP_2
L14  _B1:IO_L29P_1
L15  _B1:IO_L50P_1
L16  _B1:IO_L50N_1
L17  _P:VCCO_1  pwr
L18  _B1:IO_L77P_1
L19  _B1:IO_L77N_1
L20  _B0:IO_L92N_0
L21  _B0:IO_L74P_0
L22  _B0:IO_L74N_0
L23  _P:VCCO_0  pwr
L24  _B0:IO_L50P_0
L25  _B0:IO_L26P_0
L26  _B0:IO_L26N_0
L27  _B7:IO_L2N_7/VRP_7
L28  _B7:IO_L11N_7
L29  _P:GND  pwr
L30  _B7:IO_L8P_7
L31  _B7:IO_L26N_7
L32  _B7:IO_L32N_7
L33  _B7:IO_L33P_7/VREF_7
L34  _B7:IO_L36P_7
L35  _P:VCCO_7  pwr
L36  _B7:IO_L45P_7/VREF_7
L37  _B7:IO_L49P_7
L38  _P:GND  pwr
L39  _B7:IO_L43N_7
M1  _B2:IO_L55P_2
M2  _B2:IO_L52P_2
M3  _B2:IO_L49P_2
M4  _B2:IO_L45N_2
M5  _B2:IO_L48P_2
M6  _B2:IO_L36N_2
M7  _B2:IO_L30N_2
M8  _B2:IO_L32P_2
M9  _B2:IO_L23P_2
M10  _B2:IO_L26N_2
M11  _B2:IO_L5P_2
M12  _B2:IO_L8N_2
M13  _B2:IO_L2P_2/VRN_2
M14  _B1:IO_L26P_1
M15  _B1:IO_L26N_1
M16  _B1:IO_L56P_1
M17  _B1:IO_L56N_1
M18  _B1:IO_L74P_1
M19  _B1:IO_L74N_1
M20  _B0:IO_L92P_0
M21  _B0:IO_L71P_0
M22  _B0:IO_L71N_0
M23  _B0:IO_L35P_0
M24  _B0:IO_L35N_0
M25  _B0:IO_L20P_0
M26  _B0:IO_L20N_0
M27  _B7:IO_L2P_7/VRN_7
M28  _B7:IO_L20N_7
M29  _B7:IO_L11P_7
M30  _B7:IO_L29N_7
M31  _B7:IO_L26P_7
M32  _B7:IO_L32P_7
M33  _B7:IO_L33N_7
M34  _B7:IO_L36N_7
M35  _B7:IO_L46P_7
M36  _B7:IO_L45N_7
M37  _B7:IO_L49N_7
M38  _B7:IO_L52P_7
M39  _B7:IO_L55P_7
N1  _B2:IO_L55N_2
N2  _B2:IO_L52N_2
N3  _B2:IO_L49N_2
N4  _B2:IO_L60P_2
N5  _B2:IO_L48N_2
N6  _B2:IO_L54P_2
N7  _P:VCCO_2  pwr
N8  _B2:IO_L50N_2
N9  _B2:IO_L44N_2
N10  _B2:IO_L26P_2
N11  _B2:IO_L29N_2
N12  _B2:IO_L8P_2
N13  _P:VCCINT  pwr
N14  _P:VCCO_1  pwr
N15  _P:VCCO_1  pwr
N16  _P:VCCO_1  pwr
N17  _P:VCCO_1  pwr
N18  _P:VCCO_1  pwr
N19  _P:VCCO_1  pwr
N20  _P:VCCINT  pwr
N21  _P:VCCO_0  pwr
N22  _P:VCCO_0  pwr
N23  _P:VCCO_0  pwr
N24  _P:VCCO_0  pwr
N25  _P:VCCO_0  pwr
N26  _P:VCCO_0  pwr
N27  _P:VCCINT  pwr
N28  _B7:IO_L20P_7
N29  _B7:IO_L35N_7
N30  _B7:IO_L29P_7
N31  _B7:IO_L47N_7
N32  _B7:IO_L50N_7
N33  _P:VCCO_7  pwr
N34  _B7:IO_L48P_7
N35  _B7:IO_L46N_7
N36  _B7:IO_L54P_7
N37  _B7:IO_L58P_7
N38  _B7:IO_L52N_7
N39  _B7:IO_L55N_7
P1  _B2:IO_L70P_2
P2  _P:VCCO_2  pwr
P3  _B2:IO_L58P_2
P4  _B2:IO_L60N_2
P5  _P:GND  pwr
P6  _B2:IO_L54N_2
P7  _B2:IO_L57P_2/VREF_2
P8  _B2:IO_L50P_2
P9  _B2:IO_L44P_2
P10  _B2:IO_L47N_2
P11  _B2:IO_L29P_2
P12  _B2:IO_L35N_2
P13  _P:VCCO_2  pwr
P14  _P:VCCINT  pwr
P15  _P:VCCO_1  pwr
P16  _P:VCCO_1  pwr
P17  _P:VCCO_1  pwr
P18  _P:VCCO_1  pwr
P19  _P:VCCO_1  pwr
P20  _P:VCCINT  pwr
P21  _P:VCCO_0  pwr
P22  _P:VCCO_0  pwr
P23  _P:VCCO_0  pwr
P24  _P:VCCO_0  pwr
P25  _P:VCCO_0  pwr
P26  _P:VCCINT  pwr
P27  _P:VCCO_7  pwr
P28  _B7:IO_L44N_7
P29  _B7:IO_L35P_7
P30  _B7:IO_L53N_7
P31  _B7:IO_L47P_7
P32  _B7:IO_L50P_7
P33  _B7:IO_L51P_7/VREF_7
P34  _B7:IO_L48N_7
P35  _P:GND  pwr
P36  _B7:IO_L54N_7
P37  _B7:IO_L58N_7
P38  _P:VCCO_7  pwr
P39  _B7:IO_L67P_7
R1  _B2:IO_L70N_2
R2  _B2:IO_L73P_2
R3  _B2:IO_L58N_2
R4  _B2:IO_L72P_2
R5  _B2:IO_L69P_2/VREF_2
R6  _B2:IO_L67P_2
R7  _B2:IO_L57N_2
R8  _B2:IO_L56N_2
R9  _P:VCCO_2  pwr
R10  _B2:IO_L47P_2
R11  _B2:IO_L51P_2/VREF_2
R12  _B2:IO_L35P_2
R13  _P:VCCO_2  pwr
R14  _P:VCCO_2  pwr
R15  _P:VCCINT  pwr
R16  _P:VCCINT  pwr
R17  _P:VCCINT  pwr
R18  _P:VCCINT  pwr
R19  _P:VCCINT  pwr
R20  _P:VCCINT  pwr
R21  _P:VCCINT  pwr
R22  _P:VCCINT  pwr
R23  _P:VCCINT  pwr
R24  _P:VCCINT  pwr
R25  _P:VCCINT  pwr
R26  _P:VCCO_7  pwr
R27  _P:VCCO_7  pwr
R28  _B7:IO_L44P_7
R29  _B7:IO_L56N_7
R30  _B7:IO_L53P_7
R31  _P:VCCO_7  pwr
R32  _B7:IO_L68N_7
R33  _B7:IO_L51N_7
R34  _B7:IO_L57P_7/VREF_7
R35  _B7:IO_L60P_7
R36  _B7:IO_L69P_7/VREF_7
R37  _B7:IO_L70P_7
R38  _B7:IO_L73P_7
R39  _B7:IO_L67N_7
T1  _B2:IO_L79P_2
T2  _B2:IO_L73N_2
T3  _B2:IO_L76P_2
T4  _B2:IO_L72N_2
T5  _B2:IO_L69N_2
T6  _B2:IO_L67N_2
T7  _B2:IO_L75P_2/VREF_2
T8  _B2:IO_L56P_2
T9  _B2:IO_L68N_2
T10  _B2:IO_L59N_2
T11  _B2:IO_L51N_2
T12  _B2:IO_L53N_2
T13  _P:VCCO_2  pwr
T14  _P:VCCO_2  pwr
T15  _P:VCCINT  pwr
T16  _P:VCCINT  pwr
T17  _P:GND  pwr
T18  _P:GND  pwr
T19  _P:GND  pwr
T20  _P:GND  pwr
T21  _P:GND  pwr
T22  _P:GND  pwr
T23  _P:GND  pwr
T24  _P:VCCINT  pwr
T25  _P:VCCINT  pwr
T26  _P:VCCO_7  pwr
T27  _P:VCCO_7  pwr
T28  _B7:IO_L59N_7
T29  _B7:IO_L56P_7
T30  _B7:IO_L71N_7
T31  _B7:IO_L74N_7
T32  _B7:IO_L68P_7
T33  _B7:IO_L72P_7
T34  _B7:IO_L57N_7
T35  _B7:IO_L60N_7
T36  _B7:IO_L69N_7
T37  _B7:IO_L70N_7
T38  _B7:IO_L73N_7
T39  _B7:IO_L79P_7
U1  _B2:IO_L79N_2
U2  _B2:IO_L82P_2
U3  _B2:IO_L76N_2
U4  _P:GND  pwr
U5  _B2:IO_L81P_2/VREF_2
U6  _B2:IO_L78P_2
U7  _B2:IO_L75N_2
U8  _P:GND  pwr
U9  _B2:IO_L68P_2
U10  _B2:IO_L59P_2
U11  _P:VCCO_2  pwr
U12  _B2:IO_L53P_2
U13  _P:VCCO_2  pwr
U14  _P:VCCO_2  pwr
U15  _P:VCCINT  pwr
U16  _P:GND  pwr
U17  _P:GND  pwr
U18  _P:GND  pwr
U19  _P:GND  pwr
U20  _P:GND  pwr
U21  _P:GND  pwr
U22  _P:GND  pwr
U23  _P:GND  pwr
U24  _P:GND  pwr
U25  _P:VCCINT  pwr
U26  _P:VCCO_7  pwr
U27  _P:VCCO_7  pwr
U28  _B7:IO_L59P_7
U29  _P:VCCO_7  pwr
U30  _B7:IO_L71P_7
U31  _B7:IO_L74P_7
U32  _P:GND  pwr
U33  _B7:IO_L72N_7
U34  _B7:IO_L75P_7/VREF_7
U35  _B7:IO_L78P_7
U36  _P:GND  pwr
U37  _B7:IO_L76P_7
U38  _B7:IO_L76N_7
U39  _B7:IO_L79N_7
V1  _B2:IO_L91P_2
V2  _B2:IO_L82N_2
V3  _P:VCCO_2  pwr
V4  _B2:IO_L93P_2/VREF_2
V5  _B2:IO_L81N_2
V6  _B2:IO_L78N_2
V7  _B2:IO_L84P_2
V8  _B2:IO_L83N_2
V9  _B2:IO_L80N_2
V10  _B2:IO_L77N_2
V11  _B2:IO_L74N_2
V12  _B2:IO_L71N_2
V13  _P:VCCO_2  pwr
V14  _P:VCCO_2  pwr
V15  _P:VCCINT  pwr
V16  _P:GND  pwr
V17  _P:GND  pwr
V18  _P:GND  pwr
V19  _P:GND  pwr
V20  _P:GND  pwr
V21  _P:GND  pwr
V22  _P:GND  pwr
V23  _P:GND  pwr
V24  _P:GND  pwr
V25  _P:VCCINT  pwr
V26  _P:VCCO_7  pwr
V27  _P:VCCO_7  pwr
V28  _B7:IO_L77N_7
V29  _B7:IO_L80N_7
V30  _B7:IO_L83N_7
V31  _B7:IO_L92N_7
V32  _B7:IO_L95N_7
V33  _B7:IO_L81P_7/VREF_7
V34  _B7:IO_L75N_7
V35  _B7:IO_L78N_7
V36  _B7:IO_L84P_7
V37  _P:VCCO_7  pwr
V38  _B7:IO_L82P_7
V39  _B7:IO_L91P_7
W1  _B2:IO_L91N_2
W2  _B2:IO_L94N_2
W3  _B2:IO_L94P_2
W4  _B2:IO_L93N_2
W5  _B2:IO_L96N_2
W6  _B2:IO_L96P_2
W7  _B2:IO_L84N_2
W8  _B2:IO_L83P_2
W9  _B2:IO_L80P_2
W10  _B2:IO_L77P_2
W11  _B2:IO_L74P_2
W12  _B2:IO_L71P_2
W13  _P:VCCO_2  pwr
W14  _P:VCCO_2  pwr
W15  _P:VCCINT  pwr
W16  _P:GND  pwr
W17  _P:GND  pwr
W18  _P:GND  pwr
W19  _P:GND  pwr
W20  _P:GND  pwr
W21  _P:GND  pwr
W22  _P:GND  pwr
W23  _P:GND  pwr
W24  _P:GND  pwr
W25  _P:VCCINT  pwr
W26  _P:VCCO_7  pwr
W27  _P:VCCO_7  pwr
W28  _B7:IO_L77P_7
W29  _B7:IO_L80P_7
W30  _B7:IO_L83P_7
W31  _B7:IO_L92P_7
W32  _B7:IO_L95P_7
W33  _B7:IO_L81N_7
W34  _B7:IO_L96P_7
W35  _B7:IO_L93P_7/VREF_7
W36  _B7:IO_L84N_7
W37  _B7:IO_L94P_7
W38  _B7:IO_L82N_7
W39  _B7:IO_L91N_7
Y1  _P:GND  pwr
Y2  _P:VCCAUX  sup
Y3  _B3:IO_L95N_3
Y4  _P:GND  pwr
Y5  _B3:IO_L91N_3
Y6  _B3:IO_L94N_3
Y7  _P:GND  pwr
Y8  _B2:IO_L95N_2
Y9  _B2:IO_L95P_2
Y10  _P:GND  pwr
Y11  _B2:IO_L92N_2
Y12  _B2:IO_L92P_2
Y13  _P:VCCINT  pwr
Y14  _P:VCCINT  pwr
Y15  _P:VCCINT  pwr
Y16  _P:GND  pwr
Y17  _P:GND  pwr
Y18  _P:GND  pwr
Y19  _P:GND  pwr
Y20  _P:GND  pwr
Y21  _P:GND  pwr
Y22  _P:GND  pwr
Y23  _P:GND  pwr
Y24  _P:GND  pwr
Y25  _P:VCCINT  pwr
Y26  _P:VCCINT  pwr
Y27  _P:VCCINT  pwr
Y28  _B6:IO_L91P_6
Y29  _B6:IO_L91N_6
Y30  _P:GND  pwr
Y31  _B6:IO_L94P_6
Y32  _B6:IO_L94N_6
Y33  _P:GND  pwr
Y34  _B7:IO_L96N_7
Y35  _B7:IO_L93N_7
Y36  _P:GND  pwr
Y37  _B7:IO_L94N_7
Y38  _P:VCCAUX  sup
Y39  _P:GND  pwr

## Footprint FF1517 (pad centres in mm)
FF1517 Fine-Pitch BGA (1mm pitch)
smd 0.5 x 0.5: A2 -18,19; A3 -17,19; A4 -16,19; A5 -15,19; A6 -14,19; A7 -13,19; A8 -12,19; A9 -11,19; A10 -10,19; A11 -9,19; A12 -8,19; A13 -7,19; A14 -6,19; A15 -5,19; A16 -4,19; A17 -3,19; A18 -2,19; A19 -1,19; A20 0,19; A21 1,19; A22 2,19; A23 3,19; A24 4,19; A25 5,19; A26 6,19; A27 7,19; A28 8,19; A29 9,19; A30 10,19; A31 11,19; A32 12,19; A33 13,19; A34 14,19; A35 15,19; A36 16,19; A37 17,19; A38 18,19; AA1 -19,-1; AA2 -18,-1; AA3 -17,-1; AA4 -16,-1; AA5 -15,-1; AA6 -14,-1; AA7 -13,-1; AA8 -12,-1; AA9 -11,-1; AA10 -10,-1; AA11 -9,-1; AA12 -8,-1; AA13 -7,-1; AA14 -6,-1; AA15 -5,-1; AA16 -4,-1; AA17 -3,-1; AA18 -2,-1; AA19 -1,-1; AA20 0,-1; AA21 1,-1; AA22 2,-1; AA23 3,-1; AA24 4,-1; AA25 5,-1; AA26 6,-1; AA27 7,-1; AA28 8,-1; AA29 9,-1; AA30 10,-1; AA31 11,-1; AA32 12,-1; AA33 13,-1; AA34 14,-1; AA35 15,-1; AA36 16,-1; AA37 17,-1; AA38 18,-1; AA39 19,-1; AB1 -19,-2; AB2 -18,-2; AB3 -17,-2; AB4 -16,-2; AB5 -15,-2; AB6 -14,-2; AB7 -13,-2; AB8 -12,-2; AB9 -11,-2; AB10 -10,-2; AB11 -9,-2; AB12 -8,-2; AB13 -7,-2; AB14 -6,-2; AB15 -5,-2; AB16 -4,-2; AB17 -3,-2; AB18 -2,-2; AB19 -1,-2; AB20 0,-2; AB21 1,-2; AB22 2,-2; AB23 3,-2; AB24 4,-2; AB25 5,-2; AB26 6,-2; AB27 7,-2; AB28 8,-2; AB29 9,-2; AB30 10,-2; AB31 11,-2; AB32 12,-2; AB33 13,-2; AB34 14,-2; AB35 15,-2; AB36 16,-2; AB37 17,-2; AB38 18,-2; AB39 19,-2; AC1 -19,-3; AC2 -18,-3; AC3 -17,-3; AC4 -16,-3; AC5 -15,-3; AC6 -14,-3; AC7 -13,-3; AC8 -12,-3; AC9 -11,-3; AC10 -10,-3; AC11 -9,-3; AC12 -8,-3; AC13 -7,-3; AC14 -6,-3; AC15 -5,-3; AC16 -4,-3; AC17 -3,-3; AC18 -2,-3; AC19 -1,-3; AC20 0,-3; AC21 1,-3; AC22 2,-3; AC23 3,-3; AC24 4,-3; AC25 5,-3; AC26 6,-3; AC27 7,-3; AC28 8,-3; AC29 9,-3; AC30 10,-3; AC31 11,-3; AC32 12,-3; AC33 13,-3; AC34 14,-3; AC35 15,-3; AC36 16,-3; AC37 17,-3; AC38 18,-3; AC39 19,-3; AD1 -19,-4; AD2 -18,-4; AD3 -17,-4; AD4 -16,-4; AD5 -15,-4; AD6 -14,-4; AD7 -13,-4; AD8 -12,-4; AD9 -11,-4; AD10 -10,-4; AD11 -9,-4; AD12 -8,-4; AD13 -7,-4; AD14 -6,-4; AD15 -5,-4; AD16 -4,-4; AD17 -3,-4; AD18 -2,-4; AD19 -1,-4; AD20 0,-4; AD21 1,-4; AD22 2,-4; AD23 3,-4; AD24 4,-4; AD25 5,-4; AD26 6,-4; AD27 7,-4; AD28 8,-4; AD29 9,-4; AD30 10,-4; AD31 11,-4; AD32 12,-4; AD33 13,-4; AD34 14,-4; AD35 15,-4; AD36 16,-4; AD37 17,-4; AD38 18,-4; AD39 19,-4; AE1 -19,-5; AE2 -18,-5; AE3 -17,-5; AE4 -16,-5; AE5 -15,-5; AE6 -14,-5; AE7 -13,-5; AE8 -12,-5; AE9 -11,-5; AE10 -10,-5; AE11 -9,-5; AE12 -8,-5; AE13 -7,-5; AE14 -6,-5; AE15 -5,-5; AE16 -4,-5; AE17 -3,-5; AE18 -2,-5; AE19 -1,-5; AE20 0,-5; AE21 1,-5; AE22 2,-5; AE23 3,-5; AE24 4,-5; AE25 5,-5; AE26 6,-5; AE27 7,-5; AE28 8,-5; AE29 9,-5; AE30 10,-5; AE31 11,-5; AE32 12,-5; AE33 13,-5; AE34 14,-5; AE35 15,-5; AE36 16,-5; AE37 17,-5; AE38 18,-5; AE39 19,-5; AF1 -19,-6; AF2 -18,-6; AF3 -17,-6; AF4 -16,-6; AF5 -15,-6; AF6 -14,-6; AF7 -13,-6; AF8 -12,-6; AF9 -11,-6; AF10 -10,-6; AF11 -9,-6; AF12 -8,-6; AF13 -7,-6; AF14 -6,-6; AF15 -5,-6; AF16 -4,-6; AF17 -3,-6; AF18 -2,-6; AF19 -1,-6; AF20 0,-6; AF21 1,-6; AF22 2,-6; AF23 3,-6; AF24 4,-6; AF25 5,-6; AF26 6,-6; AF27 7,-6; AF28 8,-6; AF29 9,-6; AF30 10,-6; AF31 11,-6; AF32 12,-6; AF33 13,-6; AF34 14,-6; AF35 15,-6; AF36 16,-6; AF37 17,-6; AF38 18,-6; AF39 19,-6; AG1 -19,-7; AG2 -18,-7; AG3 -17,-7; AG4 -16,-7; AG5 -15,-7; AG6 -14,-7; AG7 -13,-7; AG8 -12,-7; AG9 -11,-7; AG10 -10,-7; AG11 -9,-7; AG12 -8,-7; AG13 -7,-7; AG14 -6,-7; AG15 -5,-7; AG16 -4,-7; AG17 -3,-7; AG18 -2,-7; AG19 -1,-7; AG20 0,-7; AG21 1,-7; AG22 2,-7; AG23 3,-7; AG24 4,-7; AG25 5,-7; AG26 6,-7; AG27 7,-7; AG28 8,-7; AG29 9,-7; AG30 10,-7; AG31 11,-7; AG32 12,-7; AG33 13,-7; AG34 14,-7; AG35 15,-7; AG36 16,-7; AG37 17,-7; AG38 18,-7; AG39 19,-7; AH1 -19,-8; AH2 -18,-8; AH3 -17,-8; AH4 -16,-8; AH5 -15,-8; AH6 -14,-8; AH7 -13,-8; AH8 -12,-8; AH9 -11,-8; AH10 -10,-8; AH11 -9,-8; AH12 -8,-8; AH13 -7,-8; AH14 -6,-8; AH15 -5,-8; AH16 -4,-8; AH17 -3,-8; AH18 -2,-8; AH19 -1,-8; AH20 0,-8; AH21 1,-8; AH22 2,-8; AH23 3,-8; AH24 4,-8; AH25 5,-8; AH26 6,-8; AH27 7,-8; AH28 8,-8; AH29 9,-8; AH30 10,-8; AH31 11,-8; AH32 12,-8; AH33 13,-8; AH34 14,-8; AH35 15,-8; AH36 16,-8; AH37 17,-8; AH38 18,-8; AH39 19,-8; AJ1 -19,-9; AJ2 -18,-9; AJ3 -17,-9; AJ4 -16,-9; AJ5 -15,-9; AJ6 -14,-9; AJ7 -13,-9; AJ8 -12,-9; AJ9 -11,-9; AJ10 -10,-9; AJ11 -9,-9; AJ12 -8,-9; AJ13 -7,-9; AJ14 -6,-9; AJ15 -5,-9; AJ16 -4,-9; AJ17 -3,-9; AJ18 -2,-9; AJ19 -1,-9; AJ20 0,-9; AJ21 1,-9; AJ22 2,-9; AJ23 3,-9; AJ24 4,-9; AJ25 5,-9; AJ26 6,-9; AJ27 7,-9; AJ28 8,-9; AJ29 9,-9; AJ30 10,-9; AJ31 11,-9; AJ32 12,-9; AJ33 13,-9; AJ34 14,-9; AJ35 15,-9; AJ36 16,-9; AJ37 17,-9; AJ38 18,-9; AJ39 19,-9; AK1 -19,-10; AK2 -18,-10; AK3 -17,-10; AK4 -16,-10; AK5 -15,-10; AK6 -14,-10; AK7 -13,-10; AK8 -12,-10; AK9 -11,-10; AK10 -10,-10; AK11 -9,-10; AK12 -8,-10; AK13 -7,-10; AK14 -6,-10; AK15 -5,-10; AK16 -4,-10; AK17 -3,-10; AK18 -2,-10; AK19 -1,-10; AK20 0,-10; AK21 1,-10; AK22 2,-10; AK23 3,-10; AK24 4,-10; AK25 5,-10; AK26 6,-10; AK27 7,-10; AK28 8,-10; AK29 9,-10; AK30 10,-10; AK31 11,-10; AK32 12,-10; AK33 13,-10; AK34 14,-10; AK35 15,-10; AK36 16,-10; AK37 17,-10; AK38 18,-10; AK39 19,-10; AL1 -19,-11; AL2 -18,-11; AL3 -17,-11; AL4 -16,-11; AL5 -15,-11; AL6 -14,-11; AL7 -13,-11; AL8 -12,-11; AL9 -11,-11; AL10 -10,-11; AL11 -9,-11; AL12 -8,-11; AL13 -7,-11; AL14 -6,-11; AL15 -5,-11; AL16 -4,-11; AL17 -3,-11; AL18 -2,-11; AL19 -1,-11; AL20 0,-11; AL21 1,-11; AL22 2,-11; AL23 3,-11; AL24 4,-11; AL25 5,-11; AL26 6,-11; AL27 7,-11; AL28 8,-11; AL29 9,-11; AL30 10,-11; AL31 11,-11; AL32 12,-11; AL33 13,-11; AL34 14,-11; AL35 15,-11; AL36 16,-11; AL37 17,-11; AL38 18,-11; AL39 19,-11; AM1 -19,-12; AM2 -18,-12; AM3 -17,-12; AM4 -16,-12; AM5 -15,-12; AM6 -14,-12; AM7 -13,-12; AM8 -12,-12; AM9 -11,-12; AM10 -10,-12; AM11 -9,-12; AM12 -8,-12; AM13 -7,-12; AM14 -6,-12; AM15 -5,-12; AM16 -4,-12; AM17 -3,-12; AM18 -2,-12; AM19 -1,-12; AM20 0,-12; AM21 1,-12; AM22 2,-12; AM23 3,-12; AM24 4,-12; AM25 5,-12; AM26 6,-12; AM27 7,-12; AM28 8,-12; AM29 9,-12; AM30 10,-12; AM31 11,-12; AM32 12,-12; AM33 13,-12; AM34 14,-12; AM35 15,-12; AM36 16,-12; AM37 17,-12; AM38 18,-12; AM39 19,-12; AN1 -19,-13; AN2 -18,-13; AN3 -17,-13; AN4 -16,-13; AN5 -15,-13; AN6 -14,-13; AN7 -13,-13; AN8 -12,-13; AN9 -11,-13; AN10 -10,-13; AN11 -9,-13; AN12 -8,-13; AN13 -7,-13; AN14 -6,-13; AN15 -5,-13; AN16 -4,-13; AN17 -3,-13; AN18 -2,-13; AN19 -1,-13; AN20 0,-13; AN21 1,-13; AN22 2,-13; AN23 3,-13; AN24 4,-13; AN25 5,-13; AN26 6,-13; AN27 7,-13; AN28 8,-13; AN29 9,-13; AN30 10,-13; AN31 11,-13; AN32 12,-13; AN33 13,-13; AN34 14,-13; AN35 15,-13; AN36 16,-13; AN37 17,-13; AN38 18,-13; AN39 19,-13; AP1 -19,-14; AP2 -18,-14; AP3 -17,-14; AP4 -16,-14; AP5 -15,-14; AP6 -14,-14; AP7 -13,-14; AP8 -12,-14; AP9 -11,-14; AP10 -10,-14; AP11 -9,-14; AP12 -8,-14; AP13 -7,-14; AP14 -6,-14; AP15 -5,-14; AP16 -4,-14; AP17 -3,-14; AP18 -2,-14; AP19 -1,-14; AP20 0,-14; AP21 1,-14; AP22 2,-14; AP23 3,-14; AP24 4,-14; AP25 5,-14; AP26 6,-14; AP27 7,-14; AP28 8,-14; AP29 9,-14; AP30 10,-14; AP31 11,-14; AP32 12,-14; AP33 13,-14; AP34 14,-14; AP35 15,-14; AP36 16,-14; AP37 17,-14; AP38 18,-14; AP39 19,-14; AR1 -19,-15; AR2 -18,-15; AR3 -17,-15; AR4 -16,-15; AR5 -15,-15; AR6 -14,-15; AR7 -13,-15; AR8 -12,-15; AR9 -11,-15; AR10 -10,-15; AR11 -9,-15; AR12 -8,-15; AR13 -7,-15; AR14 -6,-15; AR15 -5,-15; AR16 -4,-15; AR17 -3,-15; AR18 -2,-15; AR19 -1,-15; AR20 0,-15; AR21 1,-15; AR22 2,-15; AR23 3,-15; AR24 4,-15; AR25 5,-15; AR26 6,-15; AR27 7,-15; AR28 8,-15; AR29 9,-15; AR30 10,-15; AR31 11,-15; AR32 12,-15; AR33 13,-15; AR34 14,-15; AR35 15,-15; AR36 16,-15; AR37 17,-15; AR38 18,-15; AR39 19,-15; AT1 -19,-16; AT2 -18,-16; AT3 -17,-16; AT4 -16,-16; AT5 -15,-16; AT6 -14,-16; AT7 -13,-16; AT8 -12,-16; AT9 -11,-16; AT10 -10,-16; AT11 -9,-16; AT12 -8,-16; AT13 -7,-16; AT14 -6,-16; AT15 -5,-16; AT16 -4,-16; AT17 -3,-16; AT18 -2,-16; AT19 -1,-16; AT20 0,-16; AT21 1,-16; AT22 2,-16; AT23 3,-16; AT24 4,-16; AT25 5,-16; AT26 6,-16; AT27 7,-16; AT28 8,-16; AT29 9,-16; AT30 10,-16; AT31 11,-16; AT32 12,-16; AT33 13,-16; AT34 14,-16; AT35 15,-16; AT36 16,-16; AT37 17,-16; AT38 18,-16; AT39 19,-16; AU1 -19,-17; AU2 -18,-17; AU3 -17,-17; AU4 -16,-17; AU5 -15,-17; AU6 -14,-17; AU7 -13,-17; AU8 -12,-17; AU9 -11,-17; AU10 -10,-17; AU11 -9,-17; AU12 -8,-17; AU13 -7,-17; AU14 -6,-17; AU15 -5,-17; AU16 -4,-17; AU17 -3,-17; AU18 -2,-17; AU19 -1,-17; AU20 0,-17; AU21 1,-17; AU22 2,-17; AU23 3,-17; AU24 4,-17; AU25 5,-17; AU26 6,-17; AU27 7,-17; AU28 8,-17; AU29 9,-17; AU30 10,-17; AU31 11,-17; AU32 12,-17; AU33 13,-17; AU34 14,-17; AU35 15,-17; AU36 16,-17; AU37 17,-17; AU38 18,-17; AU39 19,-17; AV1 -19,-18; AV2 -18,-18; AV3 -17,-18; AV4 -16,-18; AV5 -15,-18; AV6 -14,-18; AV7 -13,-18; AV8 -12,-18; AV9 -11,-18; AV10 -10,-18; AV11 -9,-18; AV12 -8,-18; AV13 -7,-18; AV14 -6,-18; AV15 -5,-18; AV16 -4,-18; AV17 -3,-18; AV18 -2,-18; AV19 -1,-18; AV20 0,-18; AV21 1,-18; AV22 2,-18; AV23 3,-18; AV24 4,-18; AV25 5,-18; AV26 6,-18; AV27 7,-18; AV28 8,-18; AV29 9,-18; AV30 10,-18; AV31 11,-18; AV32 12,-18; AV33 13,-18; AV34 14,-18; AV35 15,-18; AV36 16,-18; AV37 17,-18; AV38 18,-18; AV39 19,-18; AW2 -18,-19; AW3 -17,-19; AW4 -16,-19; AW5 -15,-19; AW6 -14,-19; AW7 -13,-19; AW8 -12,-19; AW9 -11,-19; AW10 -10,-19; AW11 -9,-19; AW12 -8,-19; AW13 -7,-19; AW14 -6,-19; AW15 -5,-19; AW16 -4,-19; AW17 -3,-19; AW18 -2,-19; AW19 -1,-19; AW20 0,-19; AW21 1,-19; AW22 2,-19; AW23 3,-19; AW24 4,-19; AW25 5,-19; AW26 6,-19; AW27 7,-19; AW28 8,-19; AW29 9,-19; AW30 10,-19; AW31 11,-19; AW32 12,-19; AW33 13,-19; AW34 14,-19; AW35 15,-19; AW36 16,-19; AW37 17,-19; AW38 18,-19; B1 -19,18; B2 -18,18; B3 -17,18; B4 -16,18; B5 -15,18; B6 -14,18; B7 -13,18; B8 -12,18; B9 -11,18; B10 -10,18; B11 -9,18; B12 -8,18; B13 -7,18; B14 -6,18; B15 -5,18; B16 -4,18; B17 -3,18; B18 -2,18; B19 -1,18; B20 0,18; B21 1,18; B22 2,18; B23 3,18; B24 4,18; B25 5,18; B26 6,18; B27 7,18; B28 8,18; B29 9,18; B30 10,18; B31 11,18; B32 12,18; B33 13,18; B34 14,18; B35 15,18; B36 16,18; B37 17,18; B38 18,18; B39 19,18; C1 -19,17; C2 -18,17; C3 -17,17; C4 -16,17; C5 -15,17; C6 -14,17; C7 -13,17; C8 -12,17; C9 -11,17; C10 -10,17; C11 -9,17; C12 -8,17; C13 -7,17; C14 -6,17; C15 -5,17; C16 -4,17; C17 -3,17; C18 -2,17; C19 -1,17; C20 0,17; C21 1,17; C22 2,17; C23 3,17; C24 4,17; C25 5,17; C26 6,17; C27 7,17; C28 8,17; C29 9,17; C30 10,17; C31 11,17; C32 12,17; C33 13,17; C34 14,17; C35 15,17; C36 16,17; C37 17,17; C38 18,17; C39 19,17; D1 -19,16; D2 -18,16; D3 -17,16; D4 -16,16; D5 -15,16; D6 -14,16; D7 -13,16; D8 -12,16; D9 -11,16; D10 -10,16; D11 -9,16; D12 -8,16; D13 -7,16; D14 -6,16; D15 -5,16; D16 -4,16; D17 -3,16; D18 -2,16; D19 -1,16; D20 0,16; D21 1,16; D22 2,16; D23 3,16; D24 4,16; D25 5,16; D26 6,16; D27 7,16; D28 8,16; D29 9,16; D30 10,16; D31 11,16; D32 12,16; D33 13,16; D34 14,16; D35 15,16; D36 16,16; D37 17,16; D38 18,16; D39 19,16; E1 -19,15; E2 -18,15; E3 -17,15; E4 -16,15; E5 -15,15; E6 -14,15; E7 -13,15; E8 -12,15; E9 -11,15; E10 -10,15; E11 -9,15; E12 -8,15; E13 -7,15; E14 -6,15; E15 -5,15; E16 -4,15; E17 -3,15; E18 -2,15; E19 -1,15; E20 0,15; E21 1,15; E22 2,15; E23 3,15; E24 4,15; E25 5,15; E26 6,15; E27 7,15; E28 8,15; E29 9,15; E30 10,15; E31 11,15; E32 12,15; E33 13,15; E34 14,15; E35 15,15; E36 16,15; E37 17,15; E38 18,15; E39 19,15; F1 -19,14; F2 -18,14; F3 -17,14; F4 -16,14; F5 -15,14; F6 -14,14; F7 -13,14; F8 -12,14; F9 -11,14; F10 -10,14; F11 -9,14; F12 -8,14; F13 -7,14; F14 -6,14; F15 -5,14; F16 -4,14; F17 -3,14; F18 -2,14; F19 -1,14; F20 0,14; F21 1,14; F22 2,14; F23 3,14; F24 4,14; F25 5,14; F26 6,14; F27 7,14; F28 8,14; F29 9,14; F30 10,14; F31 11,14; F32 12,14; F33 13,14; F34 14,14; F35 15,14; F36 16,14; F37 17,14; F38 18,14; F39 19,14; G1 -19,13; G2 -18,13; G3 -17,13; G4 -16,13; G5 -15,13; G6 -14,13; G7 -13,13; G8 -12,13; G9 -11,13; G10 -10,13; G11 -9,13; G12 -8,13; G13 -7,13; G14 -6,13; G15 -5,13; G16 -4,13; G17 -3,13; G18 -2,13; G19 -1,13; G20 0,13; G21 1,13; G22 2,13; G23 3,13; G24 4,13; G25 5,13; G26 6,13; G27 7,13; G28 8,13; G29 9,13; G30 10,13; G31 11,13; G32 12,13; G33 13,13; G34 14,13; G35 15,13; G36 16,13; G37 17,13; G38 18,13; G39 19,13; H1 -19,12; H2 -18,12; H3 -17,12; H4 -16,12; H5 -15,12; H6 -14,12; H7 -13,12; H8 -12,12; H9 -11,12; H10 -10,12; H11 -9,12; H12 -8,12; H13 -7,12; H14 -6,12; H15 -5,12; H16 -4,12; H17 -3,12; H18 -2,12; H19 -1,12; H20 0,12; H21 1,12; H22 2,12; H23 3,12; H24 4,12; H25 5,12; H26 6,12; H27 7,12; H28 8,12; H29 9,12; H30 10,12; H31 11,12; H32 12,12; H33 13,12; H34 14,12; H35 15,12; H36 16,12; H37 17,12; H38 18,12; H39 19,12; J1 -19,11; J2 -18,11; J3 -17,11; J4 -16,11; J5 -15,11; J6 -14,11; J7 -13,11; J8 -12,11; J9 -11,11; J10 -10,11; J11 -9,11; J12 -8,11; J13 -7,11; J14 -6,11; J15 -5,11; J16 -4,11; J17 -3,11; J18 -2,11; J19 -1,11; J20 0,11; J21 1,11; J22 2,11; J23 3,11; J24 4,11; J25 5,11; J26 6,11; J27 7,11; J28 8,11; J29 9,11; J30 10,11; J31 11,11; J32 12,11; J33 13,11; J34 14,11; J35 15,11; J36 16,11; J37 17,11; J38 18,11; J39 19,11; K1 -19,10; K2 -18,10; K3 -17,10; K4 -16,10; K5 -15,10; K6 -14,10; K7 -13,10; K8 -12,10; K9 -11,10; K10 -10,10; K11 -9,10; K12 -8,10; K13 -7,10; K14 -6,10; K15 -5,10; K16 -4,10; K17 -3,10; K18 -2,10; K19 -1,10; K20 0,10; K21 1,10; K22 2,10; K23 3,10; K24 4,10; K25 5,10; K26 6,10; K27 7,10; K28 8,10; K29 9,10; K30 10,10; K31 11,10; K32 12,10; K33 13,10; K34 14,10; K35 15,10; K36 16,10; K37 17,10; K38 18,10; K39 19,10; L1 -19,9; L2 -18,9; L3 -17,9; L4 -16,9; L5 -15,9; L6 -14,9; L7 -13,9; L8 -12,9; L9 -11,9; L10 -10,9; L11 -9,9; L12 -8,9; L13 -7,9; L14 -6,9; L15 -5,9; L16 -4,9; L17 -3,9; L18 -2,9; L19 -1,9; L20 0,9; L21 1,9; L22 2,9; L23 3,9; L24 4,9; L25 5,9; L26 6,9; L27 7,9; L28 8,9; L29 9,9; L30 10,9; L31 11,9; L32 12,9; L33 13,9; L34 14,9; L35 15,9; L36 16,9; L37 17,9; L38 18,9; L39 19,9; M1 -19,8; M2 -18,8; M3 -17,8; M4 -16,8; M5 -15,8; M6 -14,8; M7 -13,8; M8 -12,8; M9 -11,8; M10 -10,8; M11 -9,8; M12 -8,8; M13 -7,8; M14 -6,8; M15 -5,8; M16 -4,8; M17 -3,8; M18 -2,8; M19 -1,8; M20 0,8; M21 1,8; M22 2,8; M23 3,8; M24 4,8; M25 5,8; M26 6,8; M27 7,8; M28 8,8; M29 9,8; M30 10,8; M31 11,8; M32 12,8; M33 13,8; M34 14,8; M35 15,8; M36 16,8; M37 17,8; M38 18,8; M39 19,8; N1 -19,7; N2 -18,7; N3 -17,7; N4 -16,7; N5 -15,7; N6 -14,7; N7 -13,7; N8 -12,7; N9 -11,7; N10 -10,7; N11 -9,7; N12 -8,7; N13 -7,7; N14 -6,7; N15 -5,7; N16 -4,7; N17 -3,7; N18 -2,7; N19 -1,7; N20 0,7; N21 1,7; N22 2,7; N23 3,7; N24 4,7; N25 5,7; N26 6,7; N27 7,7; N28 8,7; N29 9,7; N30 10,7; N31 11,7; N32 12,7; N33 13,7; N34 14,7; N35 15,7; N36 16,7; N37 17,7; N38 18,7; N39 19,7; P1 -19,6; P2 -18,6; P3 -17,6; P4 -16,6; P5 -15,6; P6 -14,6; P7 -13,6; P8 -12,6; P9 -11,6; P10 -10,6; P11 -9,6; P12 -8,6; P13 -7,6; P14 -6,6; P15 -5,6; P16 -4,6; P17 -3,6; P18 -2,6; P19 -1,6; P20 0,6; P21 1,6; P22 2,6; P23 3,6; P24 4,6; P25 5,6; P26 6,6; P27 7,6; P28 8,6; P29 9,6; P30 10,6; P31 11,6; P32 12,6; P33 13,6; P34 14,6; P35 15,6; P36 16,6; P37 17,6; P38 18,6; P39 19,6; R1 -19,5; R2 -18,5; R3 -17,5; R4 -16,5; R5 -15,5; R6 -14,5; R7 -13,5; R8 -12,5; R9 -11,5; R10 -10,5; R11 -9,5; R12 -8,5; R13 -7,5; R14 -6,5; R15 -5,5; R16 -4,5; R17 -3,5; R18 -2,5; R19 -1,5; R20 0,5; R21 1,5; R22 2,5; R23 3,5; R24 4,5; R25 5,5; R26 6,5; R27 7,5; R28 8,5; R29 9,5; R30 10,5; R31 11,5; R32 12,5; R33 13,5; R34 14,5; R35 15,5; R36 16,5; R37 17,5; R38 18,5; R39 19,5; T1 -19,4; T2 -18,4; T3 -17,4; T4 -16,4; T5 -15,4; T6 -14,4; T7 -13,4; T8 -12,4; T9 -11,4; T10 -10,4; T11 -9,4; T12 -8,4; T13 -7,4; T14 -6,4; T15 -5,4; T16 -4,4; T17 -3,4; T18 -2,4; T19 -1,4; T20 0,4; T21 1,4; T22 2,4; T23 3,4; T24 4,4; T25 5,4; T26 6,4; T27 7,4; T28 8,4; T29 9,4; T30 10,4; T31 11,4; T32 12,4; T33 13,4; T34 14,4; T35 15,4; T36 16,4; T37 17,4; T38 18,4; T39 19,4; U1 -19,3; U2 -18,3; U3 -17,3; U4 -16,3; U5 -15,3; U6 -14,3; U7 -13,3; U8 -12,3; U9 -11,3; U10 -10,3; U11 -9,3; U12 -8,3; U13 -7,3; U14 -6,3; U15 -5,3; U16 -4,3; U17 -3,3; U18 -2,3; U19 -1,3; U20 0,3; U21 1,3; U22 2,3; U23 3,3; U24 4,3; U25 5,3; U26 6,3; U27 7,3; U28 8,3; U29 9,3; U30 10,3; U31 11,3; U32 12,3; U33 13,3; U34 14,3; U35 15,3; U36 16,3; U37 17,3; U38 18,3; U39 19,3; V1 -19,2; V2 -18,2; V3 -17,2; V4 -16,2; V5 -15,2; V6 -14,2; V7 -13,2; V8 -12,2; V9 -11,2; V10 -10,2; V11 -9,2; V12 -8,2; V13 -7,2; V14 -6,2; V15 -5,2; V16 -4,2; V17 -3,2; V18 -2,2; V19 -1,2; V20 0,2; V21 1,2; V22 2,2; V23 3,2; V24 4,2; V25 5,2; V26 6,2; V27 7,2; V28 8,2; V29 9,2; V30 10,2; V31 11,2; V32 12,2; V33 13,2; V34 14,2; V35 15,2; V36 16,2; V37 17,2; V38 18,2; V39 19,2; W1 -19,1; W2 -18,1; W3 -17,1; W4 -16,1; W5 -15,1; W6 -14,1; W7 -13,1; W8 -12,1; W9 -11,1; W10 -10,1; W11 -9,1; W12 -8,1; W13 -7,1; W14 -6,1; W15 -5,1; W16 -4,1; W17 -3,1; W18 -2,1; W19 -1,1; W20 0,1; W21 1,1; W22 2,1; W23 3,1; W24 4,1; W25 5,1; W26 6,1; W27 7,1; W28 8,1; W29 9,1; W30 10,1; W31 11,1; W32 12,1; W33 13,1; W34 14,1; W35 15,1; W36 16,1; W37 17,1; W38 18,1; W39 19,1; Y1 -19,0; Y2 -18,0; Y3 -17,0; Y4 -16,0; Y5 -15,0; Y6 -14,0; Y7 -13,0; Y8 -12,0; Y9 -11,0; Y10 -10,0; Y11 -9,0; Y12 -8,0; Y13 -7,0; Y14 -6,0; Y15 -5,0; Y16 -4,0; Y17 -3,0; Y18 -2,0; Y19 -1,0; Y20 0,0; Y21 1,0; Y22 2,0; Y23 3,0; Y24 4,0; Y25 5,0; Y26 6,0; Y27 7,0; Y28 8,0; Y29 9,0; Y30 10,0; Y31 11,0; Y32 12,0; Y33 13,0; Y34 14,0; Y35 15,0; Y36 16,0; Y37 17,0; Y38 18,0; Y39 19,0